# Altium footprint library Connector_B2B.PcbLib: 1 footprints
Each footprint in its own frame and in the unit in brackets; x right, y up, seen from the top. Pads: shape width x height; smd on the part's side, far side on the other; paste and mask are expansions set on the pad; w line width, h text height; cw(c..) or ccw(c..) is an arc to the next point about the centre after c.
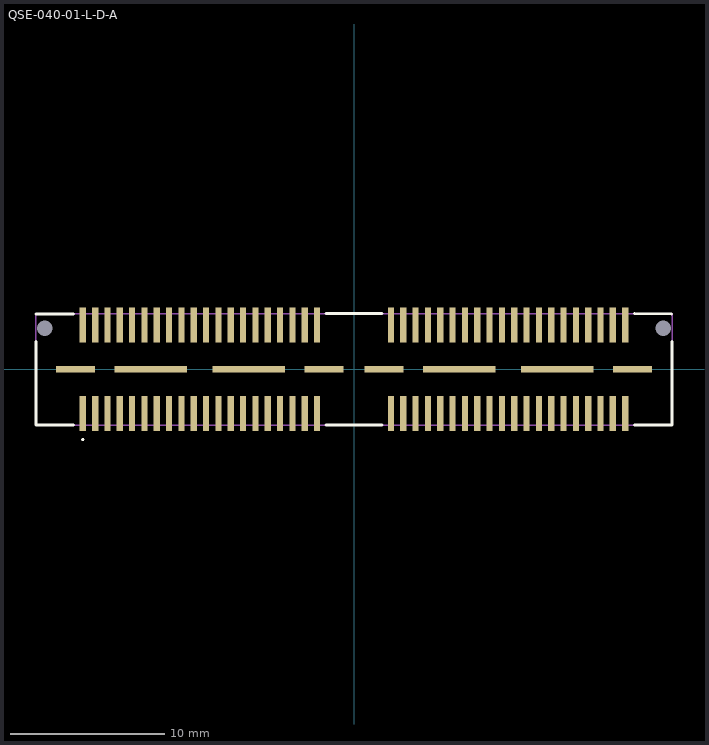
[diagram p0: the footprint, top view; thin cyan lines are the x and y axes]

## QSE-040-01-L-D-A [mm]
pads (90):
  rect 0.41x2.27 smd: 1(-17.595,-2.865) 2(-17.595,2.865) 3(-16.795,-2.865) 4(-16.795,2.865) 5(-15.995,-2.865) 6(-15.995,2.865) 7(-15.195,-2.865) 8(-15.195,2.865) 9(-14.395,-2.865) 10(-14.395,2.865) 11(-13.595,-2.865) 12(-13.595,2.865) 13(-12.795,-2.865) 14(-12.795,2.865) 15(-11.995,-2.865) 16(-11.995,2.865) 17(-11.195,-2.865) 18(-11.195,2.865) 19(-10.395,-2.865) 20(-10.395,2.865) 21(-9.595,-2.865) 22(-9.595,2.865) 23(-8.795,-2.865) 24(-8.795,2.865) 25(-7.995,-2.865) 26(-7.995,2.865) 27(-7.195,-2.865) 28(-7.195,2.865) 29(-6.395,-2.865) 30(-6.395,2.865) 31(-5.595,-2.865) 32(-5.595,2.865) 33(-4.795,-2.865) 34(-4.795,2.865) 35(-3.995,-2.865) 36(-3.995,2.865) 37(-3.195,-2.865) 38(-3.195,2.865) 39(-2.395,-2.865) 40(-2.395,2.865) 41(2.395,-2.865) 42(2.395,2.865) 43(3.195,-2.865) 44(3.195,2.865) 45(3.995,-2.865) 46(3.995,2.865) 47(4.795,-2.865) 48(4.795,2.865) 49(5.595,-2.865) 50(5.595,2.865) 51(6.395,-2.865) 52(6.395,2.865) 53(7.195,-2.865) 54(7.195,2.865) 55(7.995,-2.865) 56(7.995,2.865) 57(8.795,-2.865) 58(8.795,2.865) 59(9.595,-2.865) 60(9.595,2.865) 61(10.395,-2.865) 62(10.395,2.865) 63(11.195,-2.865) 64(11.195,2.865) 65(11.995,-2.865) 66(11.995,2.865) 67(12.795,-2.865) 68(12.795,2.865) 69(13.595,-2.865) 70(13.595,2.865) 71(14.395,-2.865) 72(14.395,2.865) 73(15.195,-2.865) 74(15.195,2.865) 75(15.995,-2.865) 76(15.995,2.865) 77(16.795,-2.865) 78(16.795,2.865) 79(17.595,-2.865) 80(17.595,2.865)
  rect 2.54x0.43 smd: 81(-18.065,0) 84(-1.935,0) 85(1.935,0) 88(18.065,0)
  rect 4.7x0.43 smd: 82(-13.175,0) 83(-6.825,0) 86(6.825,0) 87(13.175,0)
  round 0.51 hole 1.02 unplated: 89(-20.065,2.665) 90(20.065,2.665)
Top Overlay:
  lines w0.1: -17.595,-4.6 ccw(c-17.595,-4.55) -17.595,-4.5 ; -17.595,-4.6 cw(c-17.595,-4.55) -17.595,-4.5 ; -17.595,-4.6 ccw(c-17.595,-4.55) -17.595,-4.5
  lines w0.2: -20.64,1.8 -20.64,-3.6 -18.2,-3.6 ; -20.64,3.6 -18.2,3.6 ; -1.8,-3.62 1.8,-3.62 ; -1.8,3.62 1.8,3.62 ; 18.2,-3.62 20.64,-3.62 20.64,1.8 ; 18.2,3.62 20.6,3.6
Mechanical 15:
  lines w0.1: -20.64,-3.62 -20.64,3.62 20.64,3.62 20.64,-3.62 -20.64,-3.62
3D body "QSE-040-01-L-D-A.stp": height 3.25, standoff -0.77, extent -20.637,-3.746 20.637,3.746